# EAGLE library part K4S561632H (library Radicon)
K4S561632H CMOS SDRAM SDRAM 256Mb H-die (x4, x8, x16)
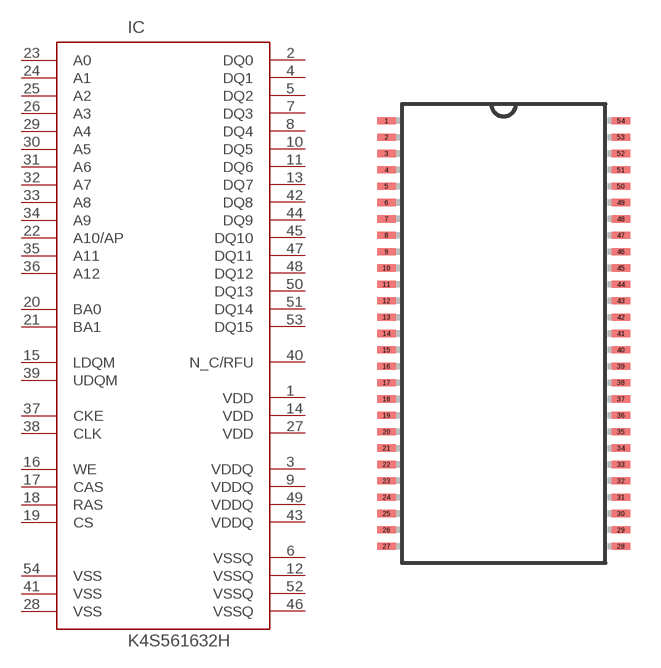
[diagram p35: symbol with the pads of TSOP2-54; footprint TSOP2-54]

Designator prefix IC

## K4S561632H  [TSOP2-54]
1  VDD  pas
2  DQ0  pas
3  VDDQ  pas
4  DQ1  pas
5  DQ2  pas
6  VSSQ  pas
7  DQ3  pas
8  DQ4  pas
9  VDDQ  pas
10  DQ5  pas
11  DQ6  pas
12  VSSQ  pas
13  DQ7  pas
14  VDD  pas
15  LDQM  pas
16  WE  pas
17  CAS  pas
18  RAS  pas
19  CS  pas
20  BA0  pas
21  BA1  pas
22  A10/AP  pas
23  A0  pas
24  A1  pas
25  A2  pas
26  A3  pas
27  VDD  pas
28  VSS  pas
29  A4  pas
30  A5  pas
31  A6  pas
32  A7  pas
33  A8  pas
34  A9  pas
35  A11  pas
36  A12  pas
37  CKE  pas
38  CLK  pas
39  UDQM  pas
40  N_C/RFU  pas
41  VSS  pas
42  DQ8  pas
43  VDDQ  pas
44  DQ9  pas
45  DQ10  pas
46  VSSQ  pas
47  DQ11  pas
48  DQ12  pas
49  VDDQ  pas
50  DQ13  pas
51  DQ14  pas
52  VSSQ  pas
53  DQ15  pas
54  VSS  pas

## Footprint TSOP2-54 (pad centres in mm)
TSOP2-54 Auto generated by make-symbol-device-package-bsdl.ulp Rev. 29
smd 0.9 x 0.35: 1 -5.73,10.4; 2 -5.73,9.6; 3 -5.73,8.8; 4 -5.73,8; 5 -5.73,7.2; 6 -5.73,6.4; 7 -5.73,5.6; 8 -5.73,4.8; 9 -5.73,4; 10 -5.73,3.2; 11 -5.73,2.4; 12 -5.73,1.6; 13 -5.73,0.8; 14 -5.73,0; 15 -5.73,-0.8; 16 -5.73,-1.6; 17 -5.73,-2.4; 18 -5.73,-3.2; 19 -5.73,-4; 20 -5.73,-4.8; 21 -5.73,-5.6; 22 -5.73,-6.4; 23 -5.73,-7.2; 24 -5.73,-8; 25 -5.73,-8.8; 26 -5.73,-9.6; 27 -5.73,-10.4; 28 5.73,-10.4; 29 5.73,-9.6; 30 5.73,-8.8; 31 5.73,-8; 32 5.73,-7.2; 33 5.73,-6.4; 34 5.73,-5.6; 35 5.73,-4.8; 36 5.73,-4; 37 5.73,-3.2; 38 5.73,-2.4; 39 5.73,-1.6; 40 5.73,-0.8; 41 5.73,0; 42 5.73,0.8; 43 5.73,1.6; 44 5.73,2.4; 45 5.73,3.2; 46 5.73,4; 47 5.73,4.8; 48 5.73,5.6; 49 5.73,6.4; 50 5.73,7.2; 51 5.73,8; 52 5.73,8.8; 53 5.73,9.6; 54 5.73,10.4